# Altium schematic symbol library Sensor_Current.SchLib: 253 symbols (part 2 of 3)
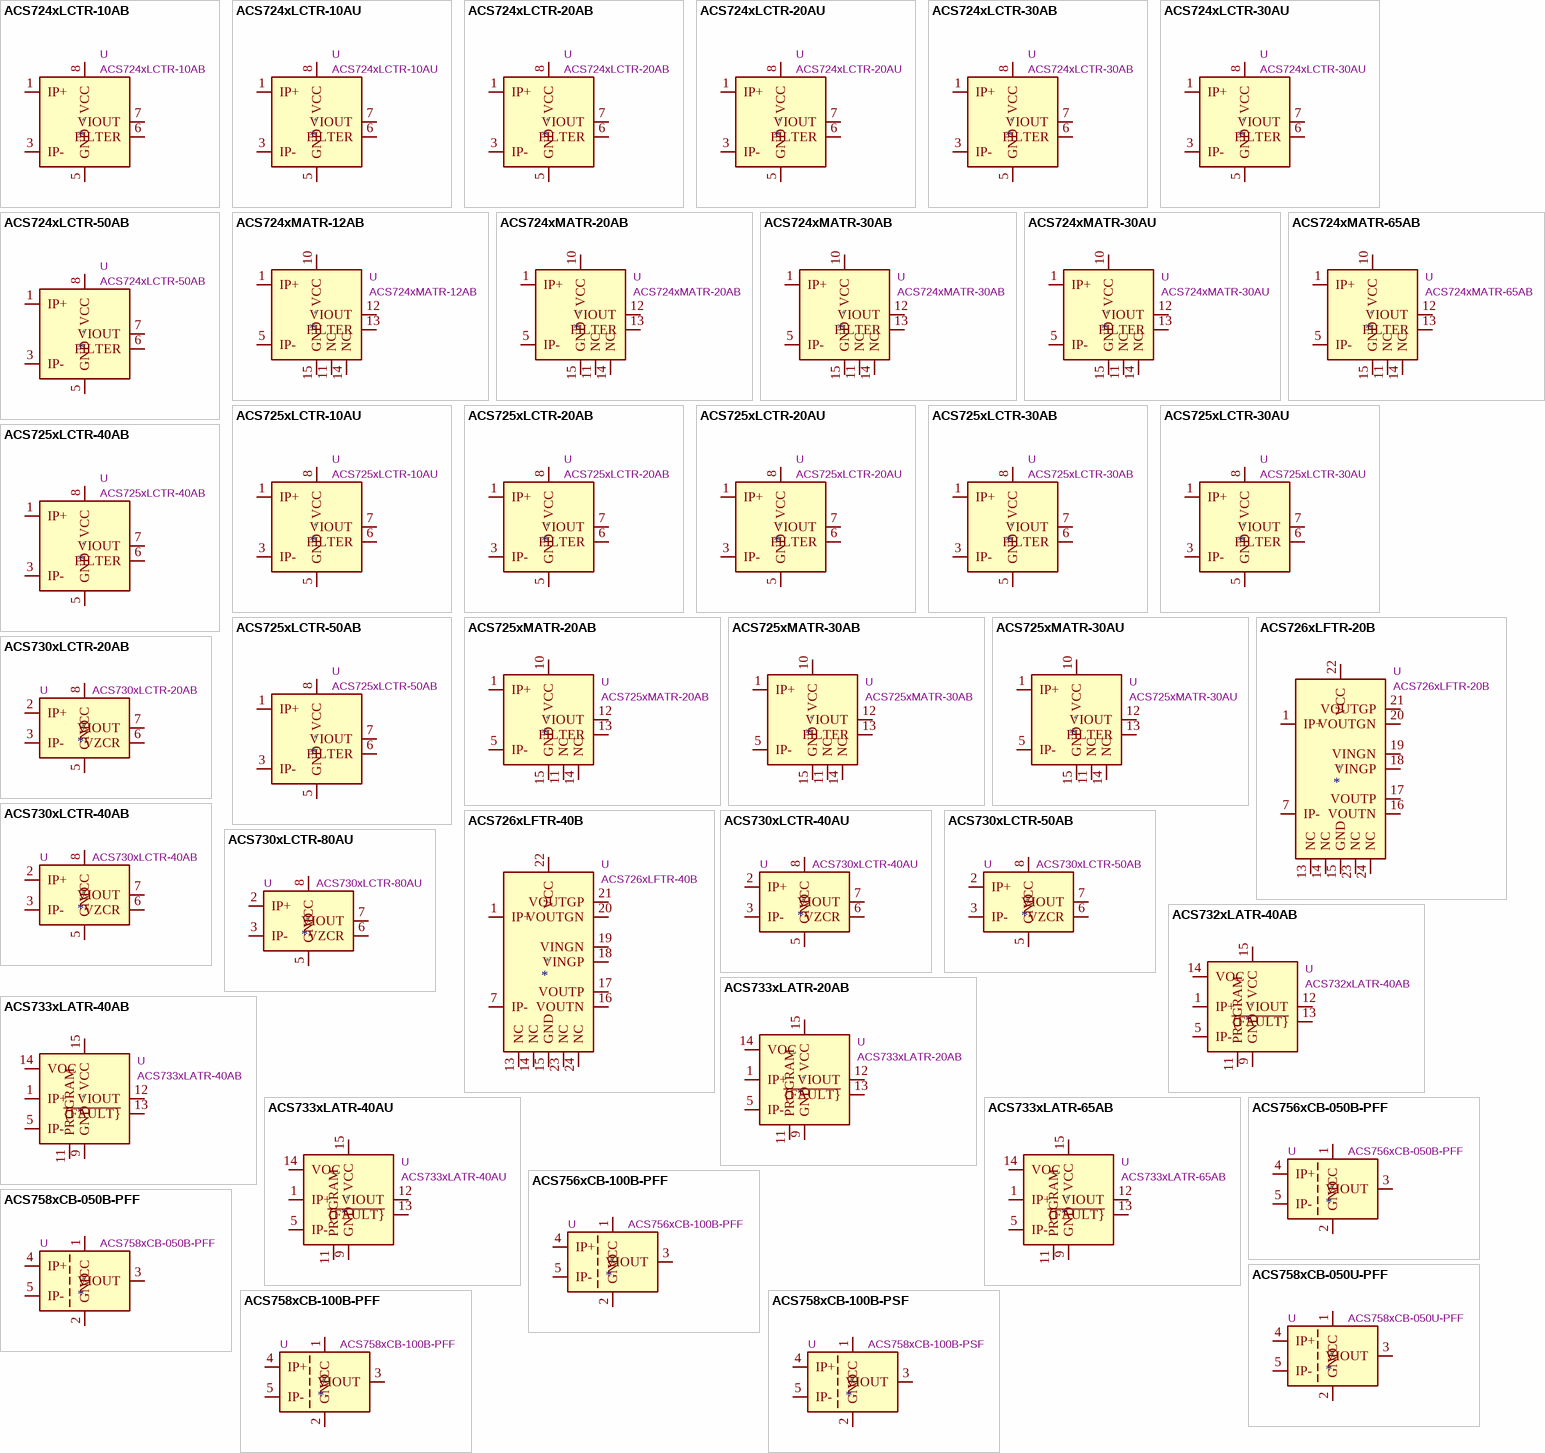
[diagram p7: symbols ACS724xLCTR-10AB to ACS758xCB-100B-PSF]

## ACS725xLCTR-30AB
designator *  value ACS725xLCTR-30AB  Reference: U
ki_keywords: hall effect current monitor sensor isolated; ki_description: ±30A Bidirectional Hall-Effect Current Sensor, +3.3V supply, 44mV/A, SOIC-8; ki_fp_filters: SOIC*3.9x4.9m*P1.27mm*; Footprint: Package_SO:SOIC-8_3.9x4.9mm_P1.27mm; Datasheet: http://www.allegromicro.com/~/media/Files/Datasheets/ACS725-Datasheet.ashx?la=en
pins: 1 IP+, 2 IP+ hidden, 3 IP-, 4 IP- hidden, 5 GND, 6 FILTER, 7 VIOUT, 8 VCC

## ACS725xLCTR-30AU
designator *  value ACS725xLCTR-30AU  Reference: U
ki_keywords: hall effect current monitor sensor isolated; ki_description: 30A Unidirectional Hall-Effect Current Sensor, +3.3V supply, 88mV/A, SOIC-8; ki_fp_filters: SOIC*3.9x4.9m*P1.27mm*; Footprint: Package_SO:SOIC-8_3.9x4.9mm_P1.27mm; Datasheet: http://www.allegromicro.com/~/media/Files/Datasheets/ACS725-Datasheet.ashx?la=en
pins: 1 IP+, 2 IP+ hidden, 3 IP-, 4 IP- hidden, 5 GND, 6 FILTER, 7 VIOUT, 8 VCC

## ACS725xLCTR-40AB
designator *  value ACS725xLCTR-40AB  Reference: U
ki_keywords: hall effect current monitor sensor isolated; ki_description: ±40A Bidirectional Hall-Effect Current Sensor, +3.3V supply, 33mV/A, SOIC-8; ki_fp_filters: SOIC*3.9x4.9m*P1.27mm*; Footprint: Package_SO:SOIC-8_3.9x4.9mm_P1.27mm; Datasheet: http://www.allegromicro.com/~/media/Files/Datasheets/ACS725-Datasheet.ashx?la=en
pins: 1 IP+, 2 IP+ hidden, 3 IP-, 4 IP- hidden, 5 GND, 6 FILTER, 7 VIOUT, 8 VCC

## ACS725xLCTR-50AB
designator *  value ACS725xLCTR-50AB  Reference: U
ki_keywords: hall effect current monitor sensor isolated; ki_description: ±50A Bidirectional Hall-Effect Current Sensor, +3.3V supply, 26.4mV/A, SOIC-8; ki_fp_filters: SOIC*3.9x4.9m*P1.27mm*; Footprint: Package_SO:SOIC-8_3.9x4.9mm_P1.27mm; Datasheet: http://www.allegromicro.com/~/media/Files/Datasheets/ACS725-Datasheet.ashx?la=en
pins: 1 IP+, 2 IP+ hidden, 3 IP-, 4 IP- hidden, 5 GND, 6 FILTER, 7 VIOUT, 8 VCC

## ACS725xMATR-20AB
designator *  value ACS725xMATR-20AB  Reference: U
ki_keywords: hall effect current monitor sensor isolated; ki_description: ±20A Bidirectional Hall-Effect Current Sensor, +3.3V supply, 66mV/A, SOIC-16; ki_fp_filters: SOIC*7.5x10.3mm*P1.27mm*; Footprint: Package_SO:SOIC-16W_7.5x10.3mm_P1.27mm; Datasheet: http://www.allegromicro.com/~/media/Files/Datasheets/ACS725KMA-Datasheet.ashx?la=en
pins: 1 IP+, 2 IP+ hidden, 3 IP+ hidden, 4 IP+ hidden, 5 IP-, 6 IP- hidden, 7 IP- hidden, 8 IP- hidden, 9 NC hidden, 10 VCC, 11 NC, 12 VIOUT, 13 FILTER, 14 NC, 15 GND, 16 NC hidden

## ACS725xMATR-30AB
designator *  value ACS725xMATR-30AB  Reference: U
ki_keywords: hall effect current monitor sensor isolated; ki_description: ±30A Bidirectional Hall-Effect Current Sensor, +3.3V supply, 44mV/A, SOIC-16; ki_fp_filters: SOIC*7.5x10.3mm*P1.27mm*; Footprint: Package_SO:SOIC-16W_7.5x10.3mm_P1.27mm; Datasheet: http://www.allegromicro.com/~/media/Files/Datasheets/ACS725KMA-Datasheet.ashx?la=en
pins: 1 IP+, 2 IP+ hidden, 3 IP+ hidden, 4 IP+ hidden, 5 IP-, 6 IP- hidden, 7 IP- hidden, 8 IP- hidden, 9 NC hidden, 10 VCC, 11 NC, 12 VIOUT, 13 FILTER, 14 NC, 15 GND, 16 NC hidden

## ACS725xMATR-30AU
designator *  value ACS725xMATR-30AU  Reference: U
ki_keywords: hall effect current monitor sensor isolated; ki_description: 30A Unidirectional Hall-Effect Current Sensor, +3.3V supply, 88mV/A, SOIC-16; ki_fp_filters: SOIC*7.5x10.3mm*P1.27mm*; Footprint: Package_SO:SOIC-16W_7.5x10.3mm_P1.27mm; Datasheet: http://www.allegromicro.com/~/media/Files/Datasheets/ACS725KMA-Datasheet.ashx?la=en
pins: 1 IP+, 2 IP+ hidden, 3 IP+ hidden, 4 IP+ hidden, 5 IP-, 6 IP- hidden, 7 IP- hidden, 8 IP- hidden, 9 NC hidden, 10 VCC, 11 NC, 12 VIOUT, 13 FILTER, 14 NC, 15 GND, 16 NC hidden

## ACS726xLFTR-20B
designator *  value ACS726xLFTR-20B  Reference: U
ki_keywords: hall effect current monitor sensor isolated; ki_description: ±20A Bidirectional Hall-Effect Current Sensor, +3.3V supply, 100mV/A, QSOP-24; ki_fp_filters: Allegro*QSOP*3.9x8.7mm*P0.635mm*; Footprint: Sensor_Current:Allegro_QSOP-24_3.9x8.7mm_P0.635mm; Datasheet: http://www.allegromicro.com/~/media/Files/Datasheets/ACS726-Datasheet.ashx?la=en
pins: 1 IP+, 2 IP+ hidden, 3 IP+ hidden, 4 IP+ hidden, 5 IP+ hidden, 6 IP+ hidden, 7 IP-, 8 IP- hidden, 9 IP- hidden, 10 IP- hidden, 11 IP- hidden, 12 IP- hidden, 13 NC, 14 NC, 15 GND, 16 VOUTN, 17 VOUTP, 18 VINGP, 19 VINGN, 20 VOUTGN, 21 VOUTGP, 22 VCC, 23 NC, 24 NC

## ACS726xLFTR-40B
designator *  value ACS726xLFTR-40B  Reference: U
ki_keywords: hall effect current monitor sensor isolated; ki_description: ±40A Bidirectional Hall-Effect Current Sensor, +3.3V supply, 50mV/A, QSOP-24; ki_fp_filters: Allegro*QSOP*3.9x8.7mm*P0.635mm*; Footprint: Sensor_Current:Allegro_QSOP-24_3.9x8.7mm_P0.635mm; Datasheet: http://www.allegromicro.com/~/media/Files/Datasheets/ACS726-Datasheet.ashx?la=en
pins: 1 IP+, 2 IP+ hidden, 3 IP+ hidden, 4 IP+ hidden, 5 IP+ hidden, 6 IP+ hidden, 7 IP-, 8 IP- hidden, 9 IP- hidden, 10 IP- hidden, 11 IP- hidden, 12 IP- hidden, 13 NC, 14 NC, 15 GND, 16 VOUTN, 17 VOUTP, 18 VINGP, 19 VINGN, 20 VOUTGN, 21 VOUTGP, 22 VCC, 23 NC, 24 NC

## ACS730xLCTR-20AB
designator *  value ACS730xLCTR-20AB  Reference: U
ki_keywords: hall effect current monitor sensor isolated; ki_description: ±20A Bidirectional Hall-Effect Current Sensor, +5.0V supply, 100mV/A, SOIC-8; ki_fp_filters: SOIC*3.9x4.9mm*P1.27mm*; Footprint: Package_SO:SOIC-8_3.9x4.9mm_P1.27mm; Datasheet: http://www.allegromicro.com/~/media/Files/Datasheets/ACS730-Datasheet.ashx?la=en
pins: 1 IP+ hidden, 2 IP+, 3 IP-, 4 IP- hidden, 5 GND, 6 VZCR, 7 VIOUT, 8 VCC

## ACS730xLCTR-40AB
designator *  value ACS730xLCTR-40AB  Reference: U
ki_keywords: hall effect current monitor sensor isolated; ki_description: ±40A Bidirectional Hall-Effect Current Sensor, +5.0V supply, 50mV/A, SOIC-8; ki_fp_filters: SOIC*3.9x4.9mm*P1.27mm*; Footprint: Package_SO:SOIC-8_3.9x4.9mm_P1.27mm; Datasheet: http://www.allegromicro.com/~/media/Files/Datasheets/ACS730-Datasheet.ashx?la=en
pins: 1 IP+ hidden, 2 IP+, 3 IP-, 4 IP- hidden, 5 GND, 6 VZCR, 7 VIOUT, 8 VCC

## ACS730xLCTR-40AU
designator *  value ACS730xLCTR-40AU  Reference: U
ki_keywords: hall effect current monitor sensor isolated; ki_description: 40A Unidirectional Hall-Effect Current Sensor, +5.0V supply, 100mV/A, SOIC-8; ki_fp_filters: SOIC*3.9x4.9mm*P1.27mm*; Footprint: Package_SO:SOIC-8_3.9x4.9mm_P1.27mm; Datasheet: http://www.allegromicro.com/~/media/Files/Datasheets/ACS730-Datasheet.ashx?la=en
pins: 1 IP+ hidden, 2 IP+, 3 IP-, 4 IP- hidden, 5 GND, 6 VZCR, 7 VIOUT, 8 VCC

## ACS730xLCTR-50AB
designator *  value ACS730xLCTR-50AB  Reference: U
ki_keywords: hall effect current monitor sensor isolated; ki_description: ±50A Bidirectional Hall-Effect Current Sensor, +5.0V supply, 40mV/A, SOIC-8; ki_fp_filters: SOIC*3.9x4.9mm*P1.27mm*; Footprint: Package_SO:SOIC-8_3.9x4.9mm_P1.27mm; Datasheet: http://www.allegromicro.com/~/media/Files/Datasheets/ACS730-Datasheet.ashx?la=en
pins: 1 IP+ hidden, 2 IP+, 3 IP-, 4 IP- hidden, 5 GND, 6 VZCR, 7 VIOUT, 8 VCC

## ACS730xLCTR-80AU
designator *  value ACS730xLCTR-80AU  Reference: U
ki_keywords: hall effect current monitor sensor isolated; ki_description: 80A Unidirectional Hall-Effect Current Sensor, +5.0V supply, 50mV/A, SOIC-8; ki_fp_filters: SOIC*3.9x4.9mm*P1.27mm*; Footprint: Package_SO:SOIC-8_3.9x4.9mm_P1.27mm; Datasheet: http://www.allegromicro.com/~/media/Files/Datasheets/ACS730-Datasheet.ashx?la=en
pins: 1 IP+ hidden, 2 IP+, 3 IP-, 4 IP- hidden, 5 GND, 6 VZCR, 7 VIOUT, 8 VCC

## ACS732xLATR-40AB
designator *  value ACS732xLATR-40AB  Reference: U
ki_keywords: hall effect current monitor sensor isolated; ki_description: ±40A Bidirectional Hall-Effect Current Sensor, +5.0V supply, 50mV/A, SOIC-16; ki_fp_filters: SOIC*7.5x10.3mm*P1.27mm*; Footprint: Package_SO:SOIC-16W_7.5x10.3mm_P1.27mm; Datasheet: http://www.allegromicro.com/~/media/Files/Datasheets/ACS732-ACS733-Datasheet.ashx?la=en
pins: 1 IP+, 2 IP+ hidden, 3 IP+ hidden, 4 IP+ hidden, 5 IP-, 6 IP- hidden, 7 IP- hidden, 8 IP- hidden, 9 GND, 10 GND hidden, 11 PROGRAM, 12 VIOUT, 13 ~{{FAULT}}, 14 VOC, 15 VCC, 16 VCC hidden

## ACS733xLATR-20AB
designator *  value ACS733xLATR-20AB  Reference: U
ki_keywords: hall effect current monitor sensor isolated; ki_description: ±20A Bidirectional Hall-Effect Current Sensor, +3.3V supply, 66mV/A, SOIC-16; ki_fp_filters: SOIC*7.5x10.3mm*P1.27mm*; Footprint: Package_SO:SOIC-16W_7.5x10.3mm_P1.27mm; Datasheet: http://www.allegromicro.com/~/media/Files/Datasheets/ACS732-ACS733-Datasheet.ashx?la=en
pins: 1 IP+, 2 IP+ hidden, 3 IP+ hidden, 4 IP+ hidden, 5 IP-, 6 IP- hidden, 7 IP- hidden, 8 IP- hidden, 9 GND, 10 GND hidden, 11 PROGRAM, 12 VIOUT, 13 ~{{FAULT}}, 14 VOC, 15 VCC, 16 VCC hidden

## ACS733xLATR-40AB
designator *  value ACS733xLATR-40AB  Reference: U
ki_keywords: hall effect current monitor sensor isolated; ki_description: ±40A Bidirectional Hall-Effect Current Sensor, +3.3V supply, 33mV/A, SOIC-16; ki_fp_filters: SOIC*7.5x10.3mm*P1.27mm*; Footprint: Package_SO:SOIC-16W_7.5x10.3mm_P1.27mm; Datasheet: http://www.allegromicro.com/~/media/Files/Datasheets/ACS732-ACS733-Datasheet.ashx?la=en
pins: 1 IP+, 2 IP+ hidden, 3 IP+ hidden, 4 IP+ hidden, 5 IP-, 6 IP- hidden, 7 IP- hidden, 8 IP- hidden, 9 GND, 10 GND hidden, 11 PROGRAM, 12 VIOUT, 13 ~{{FAULT}}, 14 VOC, 15 VCC, 16 VCC hidden

## ACS733xLATR-40AU
designator *  value ACS733xLATR-40AU  Reference: U
ki_keywords: hall effect current monitor sensor isolated; ki_description: 40A Unidirectional Hall-Effect Current Sensor, +3.3V supply, 66mV/A, SOIC-16; ki_fp_filters: SOIC*7.5x10.3mm*P1.27mm*; Footprint: Package_SO:SOIC-16W_7.5x10.3mm_P1.27mm; Datasheet: http://www.allegromicro.com/~/media/Files/Datasheets/ACS732-ACS733-Datasheet.ashx?la=en
pins: 1 IP+, 2 IP+ hidden, 3 IP+ hidden, 4 IP+ hidden, 5 IP-, 6 IP- hidden, 7 IP- hidden, 8 IP- hidden, 9 GND, 10 GND hidden, 11 PROGRAM, 12 VIOUT, 13 ~{{FAULT}}, 14 VOC, 15 VCC, 16 VCC hidden

## ACS733xLATR-65AB
designator *  value ACS733xLATR-65AB  Reference: U
ki_keywords: hall effect current monitor sensor isolated; ki_description: ±65A Unidirectional Hall-Effect Current Sensor, +3.3V supply, 20mV/A, SOIC-16; ki_fp_filters: SOIC*7.5x10.3mm*P1.27mm*; Footprint: Package_SO:SOIC-16W_7.5x10.3mm_P1.27mm; Datasheet: http://www.allegromicro.com/~/media/Files/Datasheets/ACS732-ACS733-Datasheet.ashx?la=en
pins: 1 IP+, 2 IP+ hidden, 3 IP+ hidden, 4 IP+ hidden, 5 IP-, 6 IP- hidden, 7 IP- hidden, 8 IP- hidden, 9 GND, 10 GND hidden, 11 PROGRAM, 12 VIOUT, 13 ~{{FAULT}}, 14 VOC, 15 VCC, 16 VCC hidden

## ACS756xCB-050B-PFF
designator *  value ACS756xCB-050B-PFF  Reference: U
ki_keywords: hall effect current monitor sensor isolated; ki_description: ±50A Bidirectional Hall-Effect Current Sensor, +5.0V supply, 40mV/A, CB-5 PFF; ki_fp_filters: Allegro*CB*PFF*; Footprint: Sensor_Current:Allegro_CB_PFF; Datasheet: http://www.allegromicro.com/~/media/Files/Datasheets/ACS756-Datasheet.ashx?la=en
pins: 1 VCC, 2 GND, 3 VIOUT, 4 IP+, 5 IP-

## ACS756xCB-100B-PFF
designator *  value ACS756xCB-100B-PFF  Reference: U
ki_keywords: hall effect current monitor sensor isolated; ki_description: ±100A Bidirectional Hall-Effect Current Sensor, +5.0V supply, 20mV/A, CB-5 PFF; ki_fp_filters: Allegro*CB*PFF*; Footprint: Sensor_Current:Allegro_CB_PFF; Datasheet: http://www.allegromicro.com/~/media/Files/Datasheets/ACS756-Datasheet.ashx?la=en
pins: 1 VCC, 2 GND, 3 VIOUT, 4 IP+, 5 IP-

## ACS758xCB-050B-PFF
designator *  value ACS758xCB-050B-PFF  Reference: U
ki_keywords: hall effect current monitor sensor isolated; ki_description: ±50A Bidirectional Hall-Effect Current Sensor, +5.0V supply, 40mV/A, CB-5 PFF; ki_fp_filters: Allegro*CB*PFF*; Footprint: Sensor_Current:Allegro_CB_PFF; Datasheet: http://www.allegromicro.com/~/media/Files/Datasheets/ACS758-Datasheet.ashx?la=en
pins: 1 VCC, 2 GND, 3 VIOUT, 4 IP+, 5 IP-

## ACS758xCB-050U-PFF
designator *  value ACS758xCB-050U-PFF  Reference: U
ki_keywords: hall effect current monitor sensor isolated; ki_description: 50A Unidirectional Hall-Effect Current Sensor, +5.0V supply, 60mV/A, CB-5 PFF; ki_fp_filters: Allegro*CB*PFF*; Footprint: Sensor_Current:Allegro_CB_PFF; Datasheet: http://www.allegromicro.com/~/media/Files/Datasheets/ACS758-Datasheet.ashx?la=en
pins: 1 VCC, 2 GND, 3 VIOUT, 4 IP+, 5 IP-

## ACS758xCB-100B-PFF
designator *  value ACS758xCB-100B-PFF  Reference: U
ki_keywords: hall effect current monitor sensor isolated; ki_description: ±100A Bidirectional Hall-Effect Current Sensor, +5.0V supply, 20mV/A, CB-5 PFF; ki_fp_filters: Allegro*CB*PFF*; Footprint: Sensor_Current:Allegro_CB_PFF; Datasheet: http://www.allegromicro.com/~/media/Files/Datasheets/ACS758-Datasheet.ashx?la=en
pins: 1 VCC, 2 GND, 3 VIOUT, 4 IP+, 5 IP-

## ACS758xCB-100B-PSF
designator *  value ACS758xCB-100B-PSF  Reference: U
ki_keywords: hall effect current monitor sensor isolated; ki_description: ±100A Bidirectional Hall-Effect Current Sensor, +5.0V supply, 20mV/A, CB-5 PSF; ki_fp_filters: Allegro*CB*PSF*; Footprint: Sensor_Current:Allegro_CB_PSF; Datasheet: http://www.allegromicro.com/~/media/Files/Datasheets/ACS758-Datasheet.ashx?la=en
pins: 1 VCC, 2 GND, 3 VIOUT, 4 IP+, 5 IP-

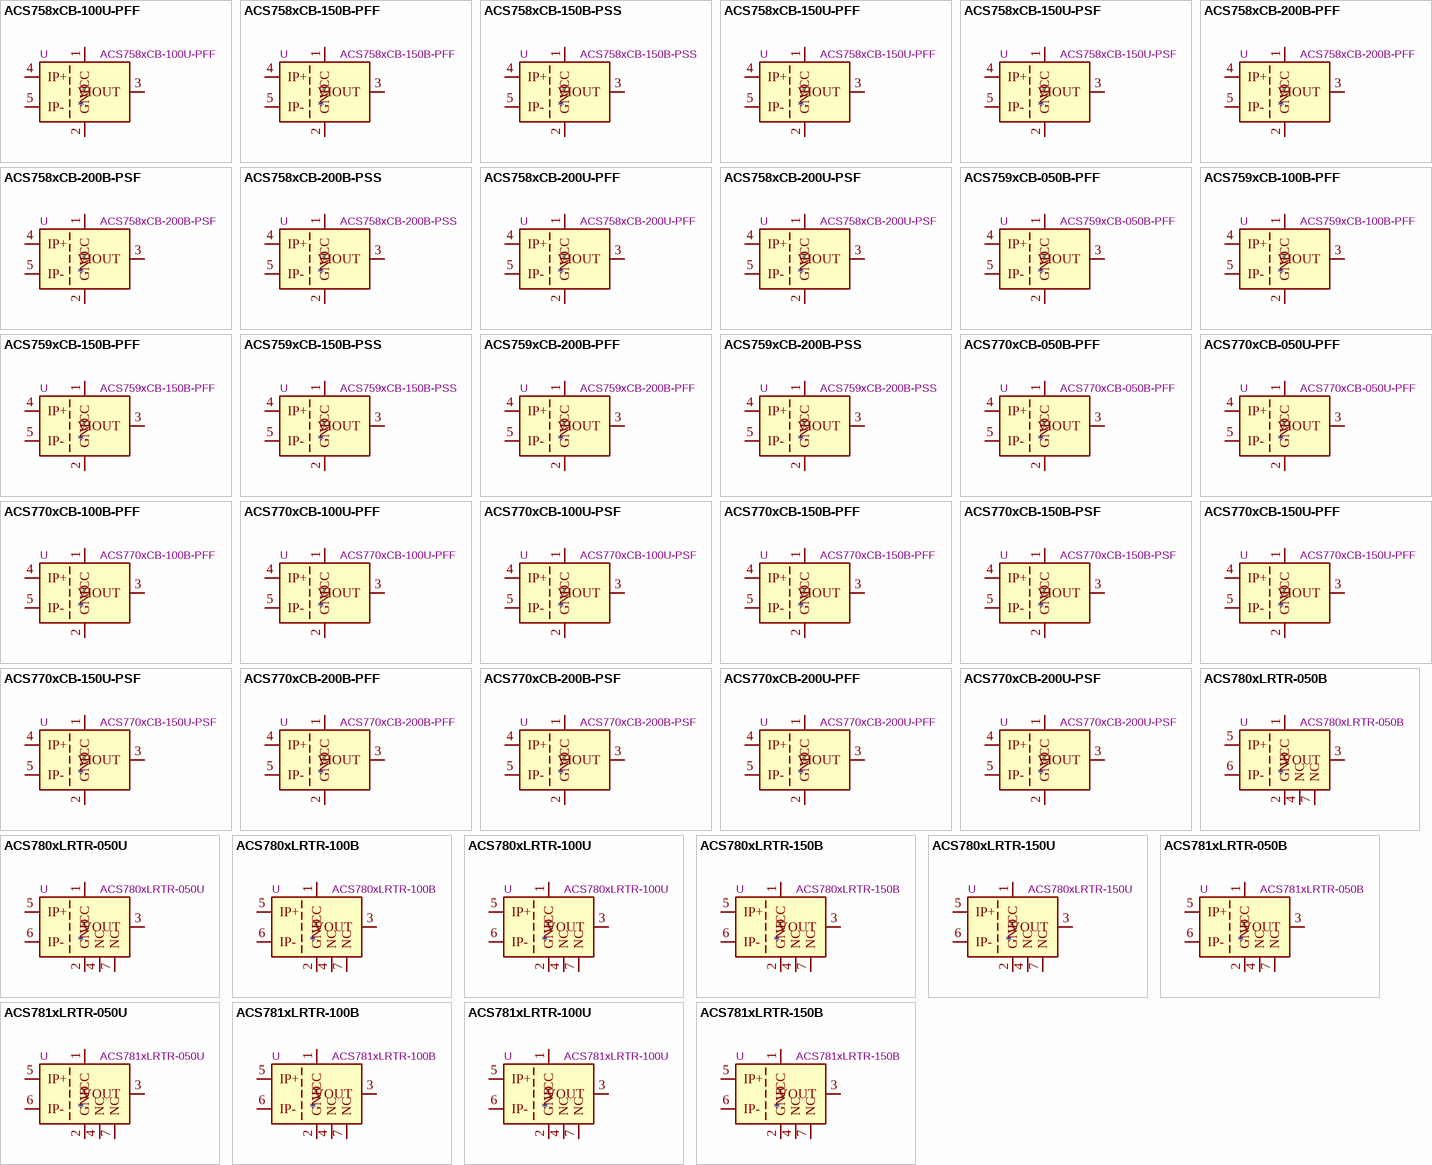
[diagram p3: symbols ACS758xCB-100U-PFF to ACS781xLRTR-150B]

## ACS758xCB-100U-PFF
designator *  value ACS758xCB-100U-PFF  Reference: U
ki_keywords: hall effect current monitor sensor isolated; ki_description: 100A Unidirectional Hall-Effect Current Sensor, +5.0V supply, 40mV/A, CB-5 PFF; ki_fp_filters: Allegro*CB*PFF*; Footprint: Sensor_Current:Allegro_CB_PFF; Datasheet: http://www.allegromicro.com/~/media/Files/Datasheets/ACS758-Datasheet.ashx?la=en
pins: 1 VCC, 2 GND, 3 VIOUT, 4 IP+, 5 IP-

## ACS758xCB-150B-PFF
designator *  value ACS758xCB-150B-PFF  Reference: U
ki_keywords: hall effect current monitor sensor isolated; ki_description: ±150A Bidirectional Hall-Effect Current Sensor, +5.0V supply, 13.3mV/A, CB-5 PFF; ki_fp_filters: Allegro*CB*PFF*; Footprint: Sensor_Current:Allegro_CB_PFF; Datasheet: http://www.allegromicro.com/~/media/Files/Datasheets/ACS758-Datasheet.ashx?la=en
pins: 1 VCC, 2 GND, 3 VIOUT, 4 IP+, 5 IP-

## ACS758xCB-150B-PSS
designator *  value ACS758xCB-150B-PSS  Reference: U
ki_keywords: hall effect current monitor sensor isolated; ki_description: ±150A Bidirectional Hall-Effect Current Sensor, +5.0V supply, 13.3mV/A, CB-5 PSS; ki_fp_filters: Allegro*CB*PSS*; Footprint: Sensor_Current:Allegro_CB_PSS; Datasheet: http://www.allegromicro.com/~/media/Files/Datasheets/ACS758-Datasheet.ashx?la=en
pins: 1 VCC, 2 GND, 3 VIOUT, 4 IP+, 5 IP-

## ACS758xCB-150U-PFF
designator *  value ACS758xCB-150U-PFF  Reference: U
ki_keywords: hall effect current monitor sensor isolated; ki_description: 150A Unidirectional Hall-Effect Current Sensor, +5.0V supply, 26.7mV/A, CB-5 PFF; ki_fp_filters: Allegro*CB*PFF*; Footprint: Sensor_Current:Allegro_CB_PFF; Datasheet: http://www.allegromicro.com/~/media/Files/Datasheets/ACS758-Datasheet.ashx?la=en
pins: 1 VCC, 2 GND, 3 VIOUT, 4 IP+, 5 IP-

## ACS758xCB-150U-PSF
designator *  value ACS758xCB-150U-PSF  Reference: U
ki_keywords: hall effect current monitor sensor isolated; ki_description: 150A Unidirectional Hall-Effect Current Sensor, +5.0V supply, 26.7mV/A, CB-5 PSF; ki_fp_filters: Allegro*CB*PSF*; Footprint: Sensor_Current:Allegro_CB_PSF; Datasheet: http://www.allegromicro.com/~/media/Files/Datasheets/ACS758-Datasheet.ashx?la=en
pins: 1 VCC, 2 GND, 3 VIOUT, 4 IP+, 5 IP-

## ACS758xCB-200B-PFF
designator *  value ACS758xCB-200B-PFF  Reference: U
ki_keywords: hall effect current monitor sensor isolated; ki_description: ±200A Bidirectional Hall-Effect Current Sensor, +5.0V supply, 10mV/A, CB-5 PFF; ki_fp_filters: Allegro*CB*PFF*; Footprint: Sensor_Current:Allegro_CB_PFF; Datasheet: http://www.allegromicro.com/~/media/Files/Datasheets/ACS758-Datasheet.ashx?la=en
pins: 1 VCC, 2 GND, 3 VIOUT, 4 IP+, 5 IP-

## ACS758xCB-200B-PSF
designator *  value ACS758xCB-200B-PSF  Reference: U
ki_keywords: hall effect current monitor sensor isolated; ki_description: ±200A Bidirectional Hall-Effect Current Sensor, +5.0V supply, 10mV/A, CB-5 PSF; ki_fp_filters: Allegro*CB*PSF*; Footprint: Sensor_Current:Allegro_CB_PSF; Datasheet: http://www.allegromicro.com/~/media/Files/Datasheets/ACS758-Datasheet.ashx?la=en
pins: 1 VCC, 2 GND, 3 VIOUT, 4 IP+, 5 IP-

## ACS758xCB-200B-PSS
designator *  value ACS758xCB-200B-PSS  Reference: U
ki_keywords: hall effect current monitor sensor isolated; ki_description: ±200A Bidirectional Hall-Effect Current Sensor, +5.0V supply, 10mV/A, CB-5 PSS; ki_fp_filters: Allegro*CB*PSS*; Footprint: Sensor_Current:Allegro_CB_PSS; Datasheet: http://www.allegromicro.com/~/media/Files/Datasheets/ACS758-Datasheet.ashx?la=en
pins: 1 VCC, 2 GND, 3 VIOUT, 4 IP+, 5 IP-

## ACS758xCB-200U-PFF
designator *  value ACS758xCB-200U-PFF  Reference: U
ki_keywords: hall effect current monitor sensor isolated; ki_description: 200A Unidirectional Hall-Effect Current Sensor, +5.0V supply, 20mV/A, CB-5 PFF; ki_fp_filters: Allegro*CB*PFF*; Footprint: Sensor_Current:Allegro_CB_PFF; Datasheet: http://www.allegromicro.com/~/media/Files/Datasheets/ACS758-Datasheet.ashx?la=en
pins: 1 VCC, 2 GND, 3 VIOUT, 4 IP+, 5 IP-

## ACS758xCB-200U-PSF
designator *  value ACS758xCB-200U-PSF  Reference: U
ki_keywords: hall effect current monitor sensor isolated; ki_description: 200A Unidirectional Hall-Effect Current Sensor, +5.0V supply, 20mV/A, CB-5 PSF; ki_fp_filters: Allegro*CB*PSF*; Footprint: Sensor_Current:Allegro_CB_PSF; Datasheet: http://www.allegromicro.com/~/media/Files/Datasheets/ACS758-Datasheet.ashx?la=en
pins: 1 VCC, 2 GND, 3 VIOUT, 4 IP+, 5 IP-

## ACS759xCB-050B-PFF
designator *  value ACS759xCB-050B-PFF  Reference: U
ki_keywords: hall effect current monitor sensor isolated; ki_description: ±50A Bidirectional Hall-Effect Current Sensor, +3.3V supply, 26.4mV/A, CB-5 PFF; ki_fp_filters: Allegro*CB*PFF*; Footprint: Sensor_Current:Allegro_CB_PFF; Datasheet: http://www.allegromicro.com/~/media/Files/Datasheets/ACS759-Datasheet.ashx?la=en
pins: 1 VCC, 2 GND, 3 VIOUT, 4 IP+, 5 IP-

## ACS759xCB-100B-PFF
designator *  value ACS759xCB-100B-PFF  Reference: U
ki_keywords: hall effect current monitor sensor isolated; ki_description: ±100A Bidirectional Hall-Effect Current Sensor, +3.3V supply, 13.2mV/A, CB-5 PFF; ki_fp_filters: Allegro*CB*PFF*; Footprint: Sensor_Current:Allegro_CB_PFF; Datasheet: http://www.allegromicro.com/~/media/Files/Datasheets/ACS759-Datasheet.ashx?la=en
pins: 1 VCC, 2 GND, 3 VIOUT, 4 IP+, 5 IP-

## ACS759xCB-150B-PFF
designator *  value ACS759xCB-150B-PFF  Reference: U
ki_keywords: hall effect current monitor sensor isolated; ki_description: ±150A Bidirectional Hall-Effect Current Sensor, +3.3V supply, 8.8mV/A, CB-5 PFF; ki_fp_filters: Allegro*CB*PFF*; Footprint: Sensor_Current:Allegro_CB_PFF; Datasheet: http://www.allegromicro.com/~/media/Files/Datasheets/ACS759-Datasheet.ashx?la=en
pins: 1 VCC, 2 GND, 3 VIOUT, 4 IP+, 5 IP-

## ACS759xCB-150B-PSS
designator *  value ACS759xCB-150B-PSS  Reference: U
ki_keywords: hall effect current monitor sensor isolated; ki_description: ±150A Bidirectional Hall-Effect Current Sensor, +3.3V supply, 8.8mV/A, CB-5 PSS; ki_fp_filters: Allegro*CB*PSS*; Footprint: Sensor_Current:Allegro_CB_PSS; Datasheet: http://www.allegromicro.com/~/media/Files/Datasheets/ACS759-Datasheet.ashx?la=en
pins: 1 VCC, 2 GND, 3 VIOUT, 4 IP+, 5 IP-

## ACS759xCB-200B-PFF
designator *  value ACS759xCB-200B-PFF  Reference: U
ki_keywords: hall effect current monitor sensor isolated; ki_description: ±200A Bidirectional Hall-Effect Current Sensor, +3.3V supply, 6.6mV/A, CB-5 PFF; ki_fp_filters: Allegro*CB*PFF*; Footprint: Sensor_Current:Allegro_CB_PFF; Datasheet: http://www.allegromicro.com/~/media/Files/Datasheets/ACS759-Datasheet.ashx?la=en
pins: 1 VCC, 2 GND, 3 VIOUT, 4 IP+, 5 IP-

## ACS759xCB-200B-PSS
designator *  value ACS759xCB-200B-PSS  Reference: U
ki_keywords: hall effect current monitor sensor isolated; ki_description: ±200A Bidirectional Hall-Effect Current Sensor, +3.3V supply, 6.6mV/A, CB-5 PSS; ki_fp_filters: Allegro*CB*PSS*; Footprint: Sensor_Current:Allegro_CB_PSS; Datasheet: http://www.allegromicro.com/~/media/Files/Datasheets/ACS759-Datasheet.ashx?la=en
pins: 1 VCC, 2 GND, 3 VIOUT, 4 IP+, 5 IP-

## ACS770xCB-050B-PFF
designator *  value ACS770xCB-050B-PFF  Reference: U
ki_keywords: hall effect current monitor sensor isolated; ki_description: ±50A Bidirectional Hall-Effect Current Sensor, +5.0V supply, 40mV/A, CB-5 PFF; ki_fp_filters: Allegro*CB*PFF*; Footprint: Sensor_Current:Allegro_CB_PFF; Datasheet: http://www.allegromicro.com/~/media/Files/Datasheets/ACS758-Datasheet.ashx?la=en
pins: 1 VCC, 2 GND, 3 VIOUT, 4 IP+, 5 IP-

## ACS770xCB-050U-PFF
designator *  value ACS770xCB-050U-PFF  Reference: U
ki_keywords: hall effect current monitor sensor isolated; ki_description: 50A Unidirectional Hall-Effect Current Sensor, +5.0V supply, 80mV/A, CB-5 PFF; ki_fp_filters: Allegro*CB*PFF*; Footprint: Sensor_Current:Allegro_CB_PFF; Datasheet: http://www.allegromicro.com/~/media/Files/Datasheets/ACS758-Datasheet.ashx?la=en
pins: 1 VCC, 2 GND, 3 VIOUT, 4 IP+, 5 IP-

## ACS770xCB-100B-PFF
designator *  value ACS770xCB-100B-PFF  Reference: U
ki_keywords: hall effect current monitor sensor isolated; ki_description: ±100A Bidirectional Hall-Effect Current Sensor, +5.0V supply, 20mV/A, CB-5 PFF; ki_fp_filters: Allegro*CB*PFF*; Footprint: Sensor_Current:Allegro_CB_PFF; Datasheet: http://www.allegromicro.com/~/media/Files/Datasheets/ACS758-Datasheet.ashx?la=en
pins: 1 VCC, 2 GND, 3 VIOUT, 4 IP+, 5 IP-

## ACS770xCB-100U-PFF
designator *  value ACS770xCB-100U-PFF  Reference: U
ki_keywords: hall effect current monitor sensor isolated; ki_description: 100A Unidirectional Hall-Effect Current Sensor, +5.0V supply, 40mV/A, CB-5 PFF; ki_fp_filters: Allegro*CB*PFF*; Footprint: Sensor_Current:Allegro_CB_PFF; Datasheet: http://www.allegromicro.com/~/media/Files/Datasheets/ACS758-Datasheet.ashx?la=en
pins: 1 VCC, 2 GND, 3 VIOUT, 4 IP+, 5 IP-

## ACS770xCB-100U-PSF
designator *  value ACS770xCB-100U-PSF  Reference: U
ki_keywords: hall effect current monitor sensor isolated; ki_description: 100A Unidirectional Hall-Effect Current Sensor, +5.0V supply, 40mV/A, CB-5 PSF; ki_fp_filters: Allegro*CB*PSF*; Footprint: Sensor_Current:Allegro_CB_PSF; Datasheet: http://www.allegromicro.com/~/media/Files/Datasheets/ACS758-Datasheet.ashx?la=en
pins: 1 VCC, 2 GND, 3 VIOUT, 4 IP+, 5 IP-

## ACS770xCB-150B-PFF
designator *  value ACS770xCB-150B-PFF  Reference: U
ki_keywords: hall effect current monitor sensor isolated; ki_description: ±50A Bidirectional Hall-Effect Current Sensor, +5.0V supply, 13.3mV/A, CB-5 PFF; ki_fp_filters: Allegro*CB*PFF*; Footprint: Sensor_Current:Allegro_CB_PFF; Datasheet: http://www.allegromicro.com/~/media/Files/Datasheets/ACS758-Datasheet.ashx?la=en
pins: 1 VCC, 2 GND, 3 VIOUT, 4 IP+, 5 IP-

## ACS770xCB-150B-PSF
designator *  value ACS770xCB-150B-PSF  Reference: U
ki_keywords: hall effect current monitor sensor isolated; ki_description: ±50A Bidirectional Hall-Effect Current Sensor, +5.0V supply, 13.3mV/A, CB-5 PSF; ki_fp_filters: Allegro*CB*PSF*; Footprint: Sensor_Current:Allegro_CB_PSF; Datasheet: http://www.allegromicro.com/~/media/Files/Datasheets/ACS758-Datasheet.ashx?la=en
pins: 1 VCC, 2 GND, 3 VIOUT, 4 IP+, 5 IP-

## ACS770xCB-150U-PFF
designator *  value ACS770xCB-150U-PFF  Reference: U
ki_keywords: hall effect current monitor sensor isolated; ki_description: 50A Unidirectional Hall-Effect Current Sensor, +5.0V supply, 26.7mV/A, CB-5 PFF; ki_fp_filters: Allegro*CB*PFF*; Footprint: Sensor_Current:Allegro_CB_PFF; Datasheet: http://www.allegromicro.com/~/media/Files/Datasheets/ACS758-Datasheet.ashx?la=en
pins: 1 VCC, 2 GND, 3 VIOUT, 4 IP+, 5 IP-

## ACS770xCB-150U-PSF
designator *  value ACS770xCB-150U-PSF  Reference: U
ki_keywords: hall effect current monitor sensor isolated; ki_description: 50A Unidirectional Hall-Effect Current Sensor, +5.0V supply, 26.7mV/A, CB-5 PSF; ki_fp_filters: Allegro*CB*PSF*; Footprint: Sensor_Current:Allegro_CB_PSF; Datasheet: http://www.allegromicro.com/~/media/Files/Datasheets/ACS758-Datasheet.ashx?la=en
pins: 1 VCC, 2 GND, 3 VIOUT, 4 IP+, 5 IP-

## ACS770xCB-200B-PFF
designator *  value ACS770xCB-200B-PFF  Reference: U
ki_keywords: hall effect current monitor sensor isolated; ki_description: ±50A Bidirectional Hall-Effect Current Sensor, +5.0V supply, 10mV/A, CB-5 PFF; ki_fp_filters: Allegro*CB*PFF*; Footprint: Sensor_Current:Allegro_CB_PFF; Datasheet: http://www.allegromicro.com/~/media/Files/Datasheets/ACS758-Datasheet.ashx?la=en
pins: 1 VCC, 2 GND, 3 VIOUT, 4 IP+, 5 IP-

## ACS770xCB-200B-PSF
designator *  value ACS770xCB-200B-PSF  Reference: U
ki_keywords: hall effect current monitor sensor isolated; ki_description: ±50A Bidirectional Hall-Effect Current Sensor, +5.0V supply, 10mV/A, CB-5 PSF; ki_fp_filters: Allegro*CB*PSF*; Footprint: Sensor_Current:Allegro_CB_PSF; Datasheet: http://www.allegromicro.com/~/media/Files/Datasheets/ACS758-Datasheet.ashx?la=en
pins: 1 VCC, 2 GND, 3 VIOUT, 4 IP+, 5 IP-

## ACS770xCB-200U-PFF
designator *  value ACS770xCB-200U-PFF  Reference: U
ki_keywords: hall effect current monitor sensor isolated; ki_description: 50A Unidirectional Hall-Effect Current Sensor, +5.0V supply, 20mV/A, CB-5 PFF; ki_fp_filters: Allegro*CB*PFF*; Footprint: Sensor_Current:Allegro_CB_PFF; Datasheet: http://www.allegromicro.com/~/media/Files/Datasheets/ACS758-Datasheet.ashx?la=en
pins: 1 VCC, 2 GND, 3 VIOUT, 4 IP+, 5 IP-

## ACS770xCB-200U-PSF
designator *  value ACS770xCB-200U-PSF  Reference: U
ki_keywords: hall effect current monitor sensor isolated; ki_description: 50A Unidirectional Hall-Effect Current Sensor, +5.0V supply, 20mV/A, CB-5 PSF; ki_fp_filters: Allegro*CB*PSF*; Footprint: Sensor_Current:Allegro_CB_PSF; Datasheet: http://www.allegromicro.com/~/media/Files/Datasheets/ACS758-Datasheet.ashx?la=en
pins: 1 VCC, 2 GND, 3 VIOUT, 4 IP+, 5 IP-

## ACS780xLRTR-050B
designator *  value ACS780xLRTR-050B  Reference: U
ki_keywords: hall effect current monitor sensor isolated; ki_description: ±50A Bidirectional Hall-Effect Current Sensor, +5.0V supply, 40mV/A, PSOF-7; ki_fp_filters: Allegro*PSOF*4.8x6.4mm*P1.60mm*; Footprint: Sensor_Current:Allegro_PSOF-7_4.8x6.4mm_P1.60mm; Datasheet: http://www.allegromicro.com/~/media/Files/Datasheets/ACS780-Datasheet.ashx?la=en
pins: 1 VCC, 2 GND, 3 VOUT, 4 NC, 5 IP+, 6 IP-, 7 NC

## ACS780xLRTR-050U
designator *  value ACS780xLRTR-050U  Reference: U
ki_keywords: hall effect current monitor sensor isolated; ki_description: 50A Unidirectional Hall-Effect Current Sensor, +5.0V supply, 60mV/A, PSOF-7; ki_fp_filters: Allegro*PSOF*4.8x6.4mm*P1.60mm*; Footprint: Sensor_Current:Allegro_PSOF-7_4.8x6.4mm_P1.60mm; Datasheet: http://www.allegromicro.com/~/media/Files/Datasheets/ACS780-Datasheet.ashx?la=en
pins: 1 VCC, 2 GND, 3 VOUT, 4 NC, 5 IP+, 6 IP-, 7 NC

## ACS780xLRTR-100B
designator *  value ACS780xLRTR-100B  Reference: U
ki_keywords: hall effect current monitor sensor isolated; ki_description: ±100A Bidirectional Hall-Effect Current Sensor, +5.0V supply, 20mV/A, PSOF-7; ki_fp_filters: Allegro*PSOF*4.8x6.4mm*P1.60mm*; Footprint: Sensor_Current:Allegro_PSOF-7_4.8x6.4mm_P1.60mm; Datasheet: http://www.allegromicro.com/~/media/Files/Datasheets/ACS780-Datasheet.ashx?la=en
pins: 1 VCC, 2 GND, 3 VOUT, 4 NC, 5 IP+, 6 IP-, 7 NC

## ACS780xLRTR-100U
designator *  value ACS780xLRTR-100U  Reference: U
ki_keywords: hall effect current monitor sensor isolated; ki_description: 100A Unidirectional Hall-Effect Current Sensor, +5.0V supply, 40mV/A, PSOF-7; ki_fp_filters: Allegro*PSOF*4.8x6.4mm*P1.60mm*; Footprint: Sensor_Current:Allegro_PSOF-7_4.8x6.4mm_P1.60mm; Datasheet: http://www.allegromicro.com/~/media/Files/Datasheets/ACS780-Datasheet.ashx?la=en
pins: 1 VCC, 2 GND, 3 VOUT, 4 NC, 5 IP+, 6 IP-, 7 NC

## ACS780xLRTR-150B
designator *  value ACS780xLRTR-150B  Reference: U
ki_keywords: hall effect current monitor sensor isolated; ki_description: ±150A Bidirectional Hall-Effect Current Sensor, +5.0V supply, 13.33mV/A, PSOF-7; ki_fp_filters: Allegro*PSOF*4.8x6.4mm*P1.60mm*; Footprint: Sensor_Current:Allegro_PSOF-7_4.8x6.4mm_P1.60mm; Datasheet: http://www.allegromicro.com/~/media/Files/Datasheets/ACS780-Datasheet.ashx?la=en
pins: 1 VCC, 2 GND, 3 VOUT, 4 NC, 5 IP+, 6 IP-, 7 NC

## ACS780xLRTR-150U
designator *  value ACS780xLRTR-150U  Reference: U
ki_keywords: hall effect current monitor sensor isolated; ki_description: 150A Unidirectional Hall-Effect Current Sensor, +5.0V supply, 26.66mV/A, PSOF-7; ki_fp_filters: Allegro*PSOF*4.8x6.4mm*P1.60mm*; Footprint: Sensor_Current:Allegro_PSOF-7_4.8x6.4mm_P1.60mm; Datasheet: http://www.allegromicro.com/~/media/Files/Datasheets/ACS780-Datasheet.ashx?la=en
pins: 1 VCC, 2 GND, 3 VOUT, 4 NC, 5 IP+, 6 IP-, 7 NC

## ACS781xLRTR-050B
designator *  value ACS781xLRTR-050B  Reference: U
ki_keywords: hall effect current monitor sensor isolated; ki_description: ±50A Bidirectional Hall-Effect Current Sensor, +3.3V supply, 26.4mV/A, PSOF-7; ki_fp_filters: Allegro*PSOF*4.8x6.4mm*P1.60mm*; Footprint: Sensor_Current:Allegro_PSOF-7_4.8x6.4mm_P1.60mm; Datasheet: http://www.allegromicro.com/~/media/Files/Datasheets/ACS780-Datasheet.ashx?la=en
pins: 1 VCC, 2 GND, 3 VOUT, 4 NC, 5 IP+, 6 IP-, 7 NC

## ACS781xLRTR-050U
designator *  value ACS781xLRTR-050U  Reference: U
ki_keywords: hall effect current monitor sensor isolated; ki_description: 50A Unidirectional Hall-Effect Current Sensor, +3.3V supply, 39.6mV/A, PSOF-7; ki_fp_filters: Allegro*PSOF*4.8x6.4mm*P1.60mm*; Footprint: Sensor_Current:Allegro_PSOF-7_4.8x6.4mm_P1.60mm; Datasheet: http://www.allegromicro.com/~/media/Files/Datasheets/ACS780-Datasheet.ashx?la=en
pins: 1 VCC, 2 GND, 3 VOUT, 4 NC, 5 IP+, 6 IP-, 7 NC

## ACS781xLRTR-100B
designator *  value ACS781xLRTR-100B  Reference: U
ki_keywords: hall effect current monitor sensor isolated; ki_description: ±100A Bidirectional Hall-Effect Current Sensor, +3.3V supply, 13.2mV/A, PSOF-7; ki_fp_filters: Allegro*PSOF*4.8x6.4mm*P1.60mm*; Footprint: Sensor_Current:Allegro_PSOF-7_4.8x6.4mm_P1.60mm; Datasheet: http://www.allegromicro.com/~/media/Files/Datasheets/ACS780-Datasheet.ashx?la=en
pins: 1 VCC, 2 GND, 3 VOUT, 4 NC, 5 IP+, 6 IP-, 7 NC

## ACS781xLRTR-100U
designator *  value ACS781xLRTR-100U  Reference: U
ki_keywords: hall effect current monitor sensor isolated; ki_description: 100A Unidirectional Hall-Effect Current Sensor, +3.3V supply, 26.4mV/A, PSOF-7; ki_fp_filters: Allegro*PSOF*4.8x6.4mm*P1.60mm*; Footprint: Sensor_Current:Allegro_PSOF-7_4.8x6.4mm_P1.60mm; Datasheet: http://www.allegromicro.com/~/media/Files/Datasheets/ACS781-Datasheet.ashx?la=en
pins: 1 VCC, 2 GND, 3 VOUT, 4 NC, 5 IP+, 6 IP-, 7 NC

## ACS781xLRTR-150B
designator *  value ACS781xLRTR-150B  Reference: U
ki_keywords: hall effect current monitor sensor isolated; ki_description: ±150A Bidirectional Hall-Effect Current Sensor, +3.3V supply, 8.8mV/A, PSOF-7; ki_fp_filters: Allegro*PSOF*4.8x6.4mm*P1.60mm*; Footprint: Sensor_Current:Allegro_PSOF-7_4.8x6.4mm_P1.60mm; Datasheet: http://www.allegromicro.com/~/media/Files/Datasheets/ACS781-Datsaheet.ashx?la=en
pins: 1 VCC, 2 GND, 3 VOUT, 4 NC, 5 IP+, 6 IP-, 7 NC

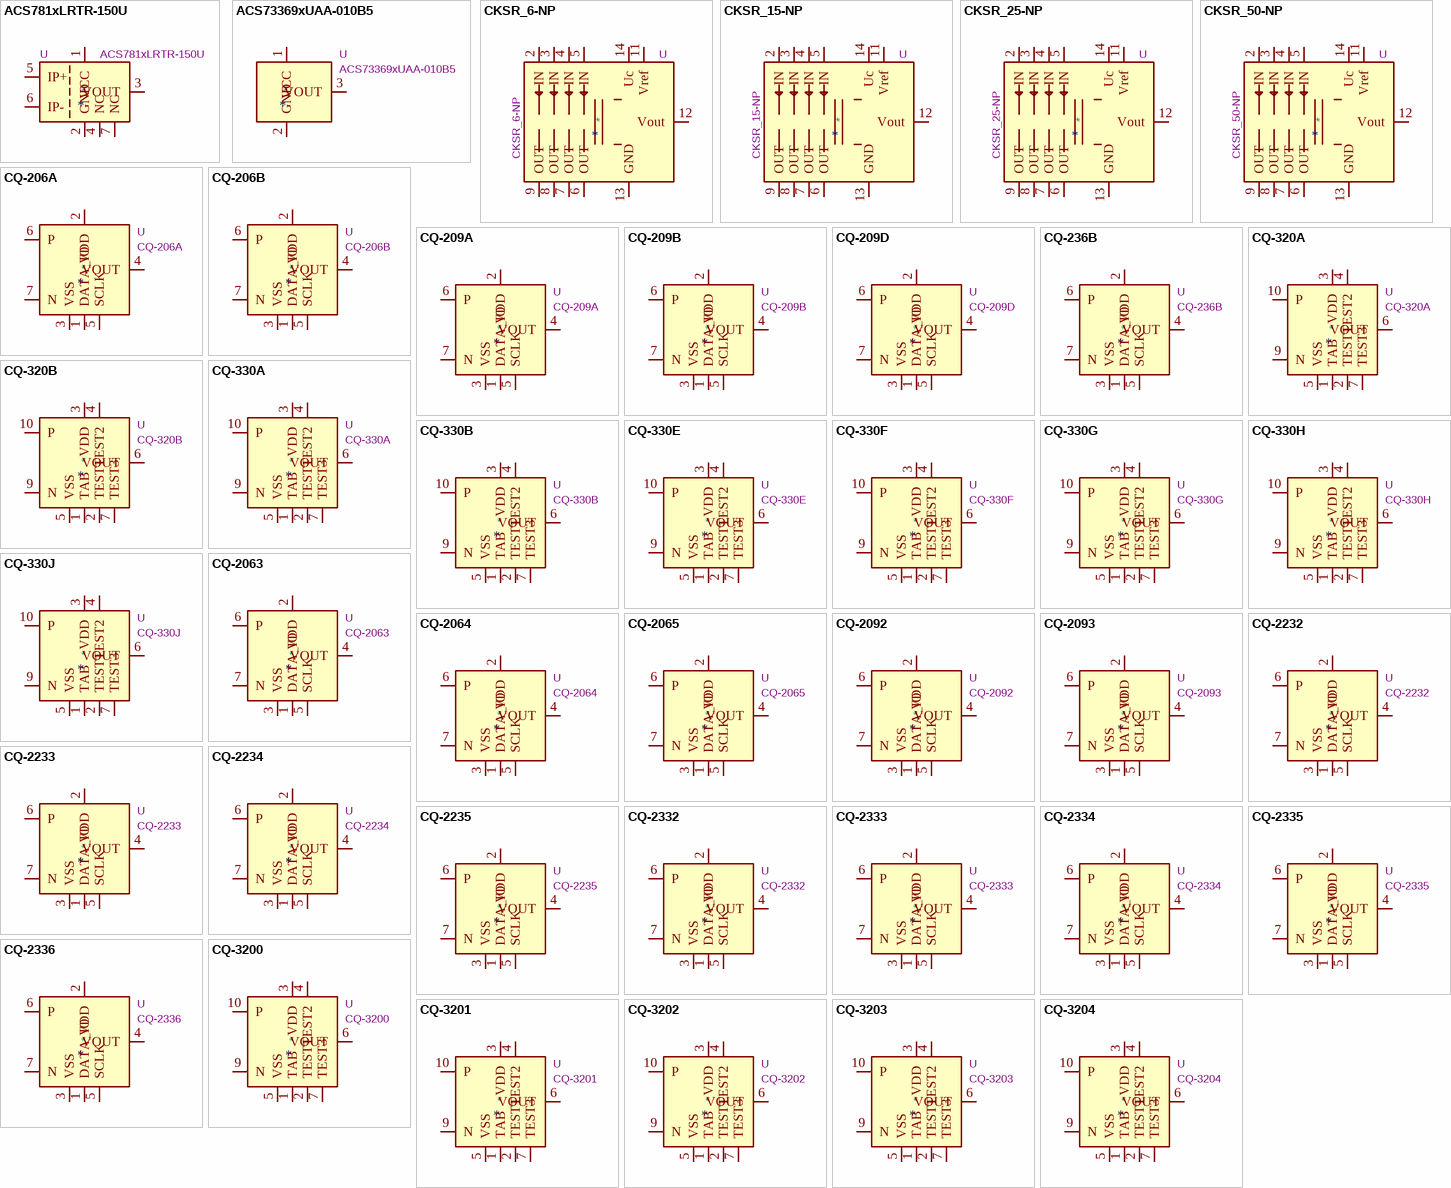
[diagram p4: symbols ACS781xLRTR-150U to CQ-3204]

## ACS781xLRTR-150U
designator *  value ACS781xLRTR-150U  Reference: U
ki_keywords: hall effect current monitor sensor isolated; ki_description: 150A Unidirectional Hall-Effect Current Sensor, +3.3V supply, 17.6mV/A, PSOF-7; ki_fp_filters: Allegro*PSOF*4.8x6.4mm*P1.60mm*; Footprint: Sensor_Current:Allegro_PSOF-7_4.8x6.4mm_P1.60mm; Datasheet: http://www.allegromicro.com/~/media/Files/Datasheets/ACS781-Datsaheet.ashx?la=en
pins: 1 VCC, 2 GND, 3 VOUT, 4 NC, 5 IP+, 6 IP-, 7 NC

## ACS73369xUAA-010B5
designator *  value ACS73369xUAA-010B5  Reference: U
ki_keywords: hall effect current monitor sensor isolated; ki_description: Programmable Linear Hall Effect Sensor, +9 to +13.5mV/G, SIP-3; ki_fp_filters: Allegro*SIP*; Footprint: Sensor_Current:Allegro_SIP-3; Datasheet: http://www.allegromicro.com/~/media/Files/Datasheets/ACS73369-Datasheet.ashx?la=en
pins: 1 VCC, 2 GND, 3 VOUT

## CKSR_6-NP
designator *  value CKSR_6-NP  Reference: U
ki_keywords: current transducer; ki_description: Current Transducer, 6A, Unipolar, 0-5V Output; ki_fp_filters: LEM*CKSR*; Footprint: Sensor_Current:LEM_CKSR; Datasheet: https://www.lem.com/sites/default/files/products_datasheets/cksr_series.pdf
pins: 2 IN, 3 IN, 4 IN, 5 IN, 6 OUT, 7 OUT, 8 OUT, 9 OUT, 11 Vref, 12 Vout, 13 GND, 14 Uc

## CKSR_15-NP
designator *  value CKSR_15-NP  Reference: U
ki_keywords: current transducer; ki_description: Current Transducer, 15A, Unipolar, 0-5V Output; ki_fp_filters: LEM*CKSR*; Footprint: Sensor_Current:LEM_CKSR; Datasheet: https://www.lem.com/sites/default/files/products_datasheets/cksr_series.pdf
pins: 2 IN, 3 IN, 4 IN, 5 IN, 6 OUT, 7 OUT, 8 OUT, 9 OUT, 11 Vref, 12 Vout, 13 GND, 14 Uc

## CKSR_25-NP
designator *  value CKSR_25-NP  Reference: U
ki_keywords: current transducer; ki_description: Current Transducer, 25A, Unipolar, 0-5V Output; ki_fp_filters: LEM*CKSR*; Footprint: Sensor_Current:LEM_CKSR; Datasheet: https://www.lem.com/sites/default/files/products_datasheets/cksr_series.pdf
pins: 2 IN, 3 IN, 4 IN, 5 IN, 6 OUT, 7 OUT, 8 OUT, 9 OUT, 11 Vref, 12 Vout, 13 GND, 14 Uc

## CKSR_50-NP
designator *  value CKSR_50-NP  Reference: U
ki_keywords: current transducer; ki_description: Current Transducer, 50A, Unipolar, 0-5V Output; ki_fp_filters: LEM*CKSR*; Footprint: Sensor_Current:LEM_CKSR; Datasheet: https://www.lem.com/sites/default/files/products_datasheets/cksr_series.pdf
pins: 2 IN, 3 IN, 4 IN, 5 IN, 6 OUT, 7 OUT, 8 OUT, 9 OUT, 11 Vref, 12 Vout, 13 GND, 14 Uc

## CQ-206A
designator *  value CQ-206A  Reference: U
ki_keywords: hall effect current sensor; ki_description: High-Speed Small-Sized Current Sensor, Bidirectional, -46A to +46A, 45mV/A, CQ-7; ki_fp_filters: AKM*CQ*; Footprint: Sensor_Current:AKM_CQ_7; Datasheet: http://www.akm.com/akm/en/file/datasheet/CQ-206A.pdf
pins: 1 DATA_IO, 2 VDD, 3 VSS, 4 VOUT, 5 SCLK, 6 P, 7 N

## CQ-206B
designator *  value CQ-206B  Reference: U
ki_keywords: hall effect current sensor; ki_description: High-Speed Small-Sized Current Sensor, Unidirectional, 0A to +45A, 90mV/A, CQ-7; ki_fp_filters: AKM*CQ*; Footprint: Sensor_Current:AKM_CQ_7; Datasheet: http://www.akm.com/akm/en/file/datasheet/CQ-206B.pdf
pins: 1 DATA_IO, 2 VDD, 3 VSS, 4 VOUT, 5 SCLK, 6 P, 7 N

## CQ-209A
designator *  value CQ-209A  Reference: U
ki_keywords: hall effect current sensor; ki_description: High-Speed Small-Sized Current Sensor, Bidirectional, -31.8A to +31.8A, 66mV/A, CQ-7S; ki_fp_filters: AKM*CQ*S*; Footprint: Sensor_Current:AKM_CQ_7S; Datasheet: http://www.akm.com/akm/en/file/datasheet/CQ-209A.pdf
pins: 1 DATA_IO, 2 VDD, 3 VSS, 4 VOUT, 5 SCLK, 6 P, 7 N

## CQ-209B
designator *  value CQ-209B  Reference: U
ki_keywords: hall effect current sensor; ki_description: High-Speed Small-Sized Current Sensor, Unidirectional, -35A to 0A, 115mV/A, CQ-7S; ki_fp_filters: AKM*CQ*S*; Footprint: Sensor_Current:AKM_CQ_7S; Datasheet: http://www.akm.com/akm/en/file/datasheet/CQ-209B.pdf
pins: 1 DATA_IO, 2 VDD, 3 VSS, 4 VOUT, 5 SCLK, 6 P, 7 N

## CQ-209D
designator *  value CQ-209D  Reference: U
ki_keywords: hall effect current sensor; ki_description: High-Speed Small-Sized Current Sensor, Bidirectional, -41A to +41A, 50mV/A, CQ-7S; ki_fp_filters: AKM*CQ*S*; Footprint: Sensor_Current:AKM_CQ_7S; Datasheet: http://www.akm.com/akm/en/file/datasheet/CQ-209D.pdf
pins: 1 DATA_IO, 2 VDD, 3 VSS, 4 VOUT, 5 SCLK, 6 P, 7 N

## CQ-236B
designator *  value CQ-236B  Reference: U
ki_keywords: hall effect current sensor; ki_description: High-Speed Small-Sized Current Sensor, Unidirectional, 0A to +25A, 160mV/A, CQ-7; ki_fp_filters: AKM*CQ*; Footprint: Sensor_Current:AKM_CQ_7; Datasheet: http://www.akm.com/akm/en/file/datasheet/CQ-236B.pdf
pins: 1 DATA_IO, 2 VDD, 3 VSS, 4 VOUT, 5 SCLK, 6 P, 7 N

## CQ-320A
designator *  value CQ-320A  Reference: U
ki_keywords: hall effect current sensor; ki_description: High-Speed Response Coreless Current Sensor, Bidirectional, -29.3A to +29.3A, 45mV/A, VSOP-24; ki_fp_filters: AKM*CQ*VSOP*5.6x7.9mm*P0.65mm*; Footprint: Sensor_Current:AKM_CQ_VSOP-24_5.6x7.9mm_P0.65mm; Datasheet: http://www.akm.com/akm/en/file/datasheet/CQ-320A.pdf
pins: 1 TAB, 2 TEST1, 3 VDD, 4 TEST2, 5 VSS, 6 VOUT, 7 TEST3, 8 TAB hidden, 9 N, 10 P

## CQ-320B
designator *  value CQ-320B  Reference: U
ki_keywords: hall effect current sensor; ki_description: High-Speed Response Coreless Current Sensor, Unidirectional, -1.1A to +20.9A, 120mV/A, VSOP-24; ki_fp_filters: AKM*CQ*VSOP*5.6x7.9mm*P0.65mm*; Footprint: Sensor_Current:AKM_CQ_VSOP-24_5.6x7.9mm_P0.65mm; Datasheet: http://www.akm.com/akm/en/file/datasheet/CQ-320B.pdf
pins: 1 TAB, 2 TEST1, 3 VDD, 4 TEST2, 5 VSS, 6 VOUT, 7 TEST3, 8 TAB hidden, 9 N, 10 P

## CQ-330A
designator *  value CQ-330A  Reference: U
ki_keywords: hall effect current sensor; ki_description: High-Speed Response Coreless Current Sensor, Bidirectional, -31.8A to +31.8A, 66mV/A, VSOP-24; ki_fp_filters: AKM*CQ*VSOP*5.6x7.9mm*P0.65mm*; Footprint: Sensor_Current:AKM_CQ_VSOP-24_5.6x7.9mm_P0.65mm; Datasheet: http://www.akm.com/akm/en/file/datasheet/CQ-330A.pdf
pins: 1 TAB, 2 TEST1, 3 VDD, 4 TEST2, 5 VSS, 6 VOUT, 7 TEST3, 8 TAB hidden, 9 N, 10 P

## CQ-330B
designator *  value CQ-330B  Reference: U
ki_keywords: hall effect current sensor; ki_description: High-Speed Response Coreless Current Sensor, Unidirectional, 0A to +21.0A, 195mV/A, VSOP-24; ki_fp_filters: AKM*CQ*VSOP*5.6x7.9mm*P0.65mm*; Footprint: Sensor_Current:AKM_CQ_VSOP-24_5.6x7.9mm_P0.65mm; Datasheet: http://www.akm.com/akm/en/file/datasheet/CQ-330B.pdf
pins: 1 TAB, 2 TEST1, 3 VDD, 4 TEST2, 5 VSS, 6 VOUT, 7 TEST3, 8 TAB hidden, 9 N, 10 P

## CQ-330E
designator *  value CQ-330E  Reference: U
ki_keywords: hall effect current sensor; ki_description: High-Speed Response Coreless Current Sensor, Unidirectional, 0A to +20.5A, 200mV/A, VSOP-24; ki_fp_filters: AKM*CQ*VSOP*5.6x7.9mm*P0.65mm*; Footprint: Sensor_Current:AKM_CQ_VSOP-24_5.6x7.9mm_P0.65mm; Datasheet: http://www.akm.com/akm/en/file/datasheet/CQ-330E.pdf
pins: 1 TAB, 2 TEST1, 3 VDD, 4 TEST2, 5 VSS, 6 VOUT, 7 TEST3, 8 TAB hidden, 9 N, 10 P

## CQ-330F
designator *  value CQ-330F  Reference: U
ki_keywords: hall effect current sensor; ki_description: High-Speed Response Coreless Current Sensor, Unidirectional, -2.0A to +42.0A, 80mV/A, VSOP-24; ki_fp_filters: AKM*CQ*VSOP*5.6x7.9mm*P0.65mm*; Footprint: Sensor_Current:AKM_CQ_VSOP-24_5.6x7.9mm_P0.65mm; Datasheet: http://www.akm.com/akm/en/file/datasheet/CQ-330F.pdf
pins: 1 TAB, 2 TEST1, 3 VDD, 4 TEST2, 5 VSS, 6 VOUT, 7 TEST3, 8 TAB hidden, 9 N, 10 P

## CQ-330G
designator *  value CQ-330G  Reference: U
ki_keywords: hall effect current sensor; ki_description: High-Speed Response Coreless Current Sensor, Bidirectional, -4.5A to +4.5A, 450mV/A, VSOP-24; ki_fp_filters: AKM*CQ*VSOP*5.6x7.9mm*P0.65mm*; Footprint: Sensor_Current:AKM_CQ_VSOP-24_5.6x7.9mm_P0.65mm; Datasheet: http://www.akm.com/akm/en/file/datasheet/CQ-330G.pdf
pins: 1 TAB, 2 TEST1, 3 VDD, 4 TEST2, 5 VSS, 6 VOUT, 7 TEST3, 8 TAB hidden, 9 N, 10 P

## CQ-330H
designator *  value CQ-330H  Reference: U
ki_keywords: hall effect current sensor; ki_description: High-Speed Response Coreless Current Sensor, Bidirectional, -42.0A to +42.0A, 50mV/A, VSOP-24; ki_fp_filters: AKM*CQ*VSOP*5.6x7.9mm*P0.65mm*; Footprint: Sensor_Current:AKM_CQ_VSOP-24_5.6x7.9mm_P0.65mm; Datasheet: http://www.akm.com/akm/en/file/datasheet/CQ-330H.pdf
pins: 1 TAB, 2 TEST1, 3 VDD, 4 TEST2, 5 VSS, 6 VOUT, 7 TEST3, 8 TAB hidden, 9 N, 10 P

## CQ-330J
designator *  value CQ-330J  Reference: U
ki_keywords: hall effect current sensor; ki_description: High-Speed Response Coreless Current Sensor, Unidirectional, -2.0A to +42.0A, 82.7mV/A, VSOP-24; ki_fp_filters: AKM*CQ*VSOP*5.6x7.9mm*P0.65mm*; Footprint: Sensor_Current:AKM_CQ_VSOP-24_5.6x7.9mm_P0.65mm; Datasheet: http://www.akm.com/akm/en/file/datasheet/CQ-330J.pdf
pins: 1 TAB, 2 TEST1, 3 VDD, 4 TEST2, 5 VSS, 6 VOUT, 7 TEST3, 8 TAB hidden, 9 N, 10 P

## CQ-2063
designator *  value CQ-2063  Reference: U
ki_keywords: hall effect current sensor; ki_description: High-Speed Small-Sized Current Sensor, Bidirectional, -35A to +35A, 60mV/A, CQ-7; ki_fp_filters: AKM*CQ*; Footprint: Sensor_Current:AKM_CQ_7; Datasheet: http://www.akm.com/akm/en/file/datasheet/CQ-2063.pdf
pins: 1 DATA_IO, 2 VDD, 3 VSS, 4 VOUT, 5 SCLK, 6 P, 7 N

## CQ-2064
designator *  value CQ-2064  Reference: U
ki_keywords: hall effect current sensor; ki_description: High-Speed Small-Sized Current Sensor, Bidirectional, -54A to +54A, 40mV/A, CQ-7; ki_fp_filters: AKM*CQ*; Footprint: Sensor_Current:AKM_CQ_7; Datasheet: http://www.akm.com/akm/en/file/datasheet/CQ-2064.pdf
pins: 1 DATA_IO, 2 VDD, 3 VSS, 4 VOUT, 5 SCLK, 6 P, 7 N

## CQ-2065
designator *  value CQ-2065  Reference: U
ki_keywords: hall effect current sensor; ki_description: High-Speed Small-Sized Current Sensor, Bidirectional, -85A to +85A, 25mV/A, CQ-7; ki_fp_filters: AKM*CQ*; Footprint: Sensor_Current:AKM_CQ_7; Datasheet: http://www.akm.com/akm/en/file/datasheet/CQ-2065.pdf
pins: 1 DATA_IO, 2 VDD, 3 VSS, 4 VOUT, 5 SCLK, 6 P, 7 N

## CQ-2092
designator *  value CQ-2092  Reference: U
ki_keywords: hall effect current sensor; ki_description: High-Speed Small-Sized Current Sensor, Bidirectional, -21A to +21A, 100mV/A, CQ-7S; ki_fp_filters: AKM*CQ*S*; Footprint: Sensor_Current:AKM_CQ_7S; Datasheet: http://www.akm.com/akm/en/file/datasheet/CQ-2092.pdf
pins: 1 DATA_IO, 2 VDD, 3 VSS, 4 VOUT, 5 SCLK, 6 P, 7 N

## CQ-2093
designator *  value CQ-2093  Reference: U
ki_keywords: hall effect current sensor; ki_description: High-Speed Small-Sized Current Sensor, Bidirectional, -35A to +35A, 60mV/A, CQ-7S; ki_fp_filters: AKM*CQ*S*; Footprint: Sensor_Current:AKM_CQ_7S; Datasheet: http://www.akm.com/akm/en/file/datasheet/CQ-2093.pdf
pins: 1 DATA_IO, 2 VDD, 3 VSS, 4 VOUT, 5 SCLK, 6 P, 7 N

## CQ-2232
designator *  value CQ-2232  Reference: U
ki_keywords: hall effect current sensor; ki_description: High-Speed Small Current Sensor, Bidirectional, -21A to +21A, 62.5mV/A, CQ-7; ki_fp_filters: AKM*CQ*; Footprint: Sensor_Current:AKM_CQ_7; Datasheet: http://www.akm.com/akm/en/file/datasheet/CQ-2232.pdf
pins: 1 DATA_IO, 2 VDD, 3 VSS, 4 VOUT, 5 SCLK, 6 P, 7 N

## CQ-2233
designator *  value CQ-2233  Reference: U
ki_keywords: hall effect current sensor; ki_description: High-Speed Small Current Sensor, Bidirectional, -35A to +35A, 37.5mV/A, CQ-7; ki_fp_filters: AKM*CQ*; Footprint: Sensor_Current:AKM_CQ_7; Datasheet: http://www.akm.com/akm/en/file/datasheet/CQ-2233.pdf
pins: 1 DATA_IO, 2 VDD, 3 VSS, 4 VOUT, 5 SCLK, 6 P, 7 N

## CQ-2234
designator *  value CQ-2234  Reference: U
ki_keywords: hall effect current sensor; ki_description: High-Speed Small Current Sensor, Bidirectional, -54A to +54A, 24.5mV/A, CQ-7; ki_fp_filters: AKM*CQ*; Footprint: Sensor_Current:AKM_CQ_7; Datasheet: http://www.akm.com/akm/en/file/datasheet/CQ-2234.pdf
pins: 1 DATA_IO, 2 VDD, 3 VSS, 4 VOUT, 5 SCLK, 6 P, 7 N

## CQ-2235
designator *  value CQ-2235  Reference: U
ki_keywords: hall effect current sensor; ki_description: High-Speed Small Current Sensor, Bidirectional, -85A to +85A, 15.5mV/A, CQ-7; ki_fp_filters: AKM*CQ*; Footprint: Sensor_Current:AKM_CQ_7; Datasheet: http://www.akm.com/akm/en/file/datasheet/CQ-2235.pdf
pins: 1 DATA_IO, 2 VDD, 3 VSS, 4 VOUT, 5 SCLK, 6 P, 7 N

## CQ-2332
designator *  value CQ-2332  Reference: U
ki_keywords: hall effect current sensor; ki_description: High-Speed Small Current Sensor, Bidirectional, -21A to +21A, 100mV/A, CQ-7; ki_fp_filters: AKM*CQ*; Footprint: Sensor_Current:AKM_CQ_7; Datasheet: http://www.akm.com/akm/en/file/datasheet/CQ-2332.pdf
pins: 1 DATA_IO, 2 VDD, 3 VSS, 4 VOUT, 5 SCLK, 6 P, 7 N

## CQ-2333
designator *  value CQ-2333  Reference: U
ki_keywords: hall effect current sensor; ki_description: High-Speed Small Current Sensor, Bidirectional, -35A to +35A, 60mV/A, CQ-7; ki_fp_filters: AKM*CQ*; Footprint: Sensor_Current:AKM_CQ_7; Datasheet: http://www.akm.com/akm/en/file/datasheet/CQ-2333.pdf
pins: 1 DATA_IO, 2 VDD, 3 VSS, 4 VOUT, 5 SCLK, 6 P, 7 N

## CQ-2334
designator *  value CQ-2334  Reference: U
ki_keywords: hall effect current sensor; ki_description: High-Speed Small Current Sensor, Bidirectional, -54A to +54A, 40mV/A, CQ-7; ki_fp_filters: AKM*CQ*; Footprint: Sensor_Current:AKM_CQ_7; Datasheet: http://www.akm.com/akm/en/file/datasheet/CQ-2334.pdf
pins: 1 DATA_IO, 2 VDD, 3 VSS, 4 VOUT, 5 SCLK, 6 P, 7 N

## CQ-2335
designator *  value CQ-2335  Reference: U
ki_keywords: hall effect current sensor; ki_description: High-Speed Small Current Sensor, Bidirectional, -85A to +85A, 25mV/A, CQ-7; ki_fp_filters: AKM*CQ*; Footprint: Sensor_Current:AKM_CQ_7; Datasheet: http://www.akm.com/akm/en/file/datasheet/CQ-2335.pdf
pins: 1 DATA_IO, 2 VDD, 3 VSS, 4 VOUT, 5 SCLK, 6 P, 7 N

## CQ-2336
designator *  value CQ-2336  Reference: U
ki_keywords: hall effect current sensor; ki_description: High-Speed Small Current Sensor, Bidirectional, -170A to +170A, 12mV/A, CQ-7; ki_fp_filters: AKM*CQ*; Footprint: Sensor_Current:AKM_CQ_7; Datasheet: http://www.akm.com/akm/en/file/datasheet/CQ-2335.pdf
pins: 1 DATA_IO, 2 VDD, 3 VSS, 4 VOUT, 5 SCLK, 6 P, 7 N

## CQ-3200
designator *  value CQ-3200  Reference: U
ki_keywords: hall effect current sensor; ki_description: High-Speed Response Coreless Current Sensor, Bidirectional, -8.5A to +8.5A, 155mV/A, VSOP-24; ki_fp_filters: AKM*CQ*VSOP*5.6x7.9mm*P0.65mm*; Footprint: Sensor_Current:AKM_CQ_VSOP-24_5.6x7.9mm_P0.65mm; Datasheet: http://www.akm.com/akm/en/file/datasheet/CQ-3200.pdf
pins: 1 TAB, 2 TEST1, 3 VDD, 4 TEST2, 5 VSS, 6 VOUT, 7 TEST3, 8 TAB hidden, 9 N, 10 P

## CQ-3201
designator *  value CQ-3201  Reference: U
ki_keywords: hall effect current sensor; ki_description: High-Speed Response Coreless Current Sensor, Bidirectional, -10.1A to +10.1A, 130mV/A, VSOP-24; ki_fp_filters: AKM*CQ*VSOP*5.6x7.9mm*P0.65mm*; Footprint: Sensor_Current:AKM_CQ_VSOP-24_5.6x7.9mm_P0.65mm; Datasheet: http://www.akm.com/akm/en/file/datasheet/CQ-3201.pdf
pins: 1 TAB, 2 TEST1, 3 VDD, 4 TEST2, 5 VSS, 6 VOUT, 7 TEST3, 8 TAB hidden, 9 N, 10 P

## CQ-3202
designator *  value CQ-3202  Reference: U
ki_keywords: hall effect current sensor; ki_description: High-Speed Response Coreless Current Sensor, Bidirectional, -21.1A to +21.1A, 62.5mV/A, VSOP-24; ki_fp_filters: AKM*CQ*VSOP*5.6x7.9mm*P0.65mm*; Footprint: Sensor_Current:AKM_CQ_VSOP-24_5.6x7.9mm_P0.65mm; Datasheet: http://www.akm.com/akm/en/file/datasheet/CQ-3202.pdf
pins: 1 TAB, 2 TEST1, 3 VDD, 4 TEST2, 5 VSS, 6 VOUT, 7 TEST3, 8 TAB hidden, 9 N, 10 P

## CQ-3203
designator *  value CQ-3203  Reference: U
ki_keywords: hall effect current sensor; ki_description: High-Speed Response Coreless Current Sensor, Bidirectional, -35.7A to +35.7A, 37mV/A, VSOP-24; ki_fp_filters: AKM*CQ*VSOP*5.6x7.9mm*P0.65mm*; Footprint: Sensor_Current:AKM_CQ_VSOP-24_5.6x7.9mm_P0.65mm; Datasheet: http://www.akm.com/akm/en/file/datasheet/CQ-3203.pdf
pins: 1 TAB, 2 TEST1, 3 VDD, 4 TEST2, 5 VSS, 6 VOUT, 7 TEST3, 8 TAB hidden, 9 N, 10 P

## CQ-3204
designator *  value CQ-3204  Reference: U
ki_keywords: hall effect current sensor; ki_description: High-Speed Response Coreless Current Sensor, Bidirectional, -44.0A to +44.0A, 30mV/A, VSOP-24; ki_fp_filters: AKM*CQ*VSOP*5.6x7.9mm*P0.65mm*; Footprint: Sensor_Current:AKM_CQ_VSOP-24_5.6x7.9mm_P0.65mm; Datasheet: http://www.akm.com/akm/en/file/datasheet/CQ-3204.pdf
pins: 1 TAB, 2 TEST1, 3 VDD, 4 TEST2, 5 VSS, 6 VOUT, 7 TEST3, 8 TAB hidden, 9 N, 10 P

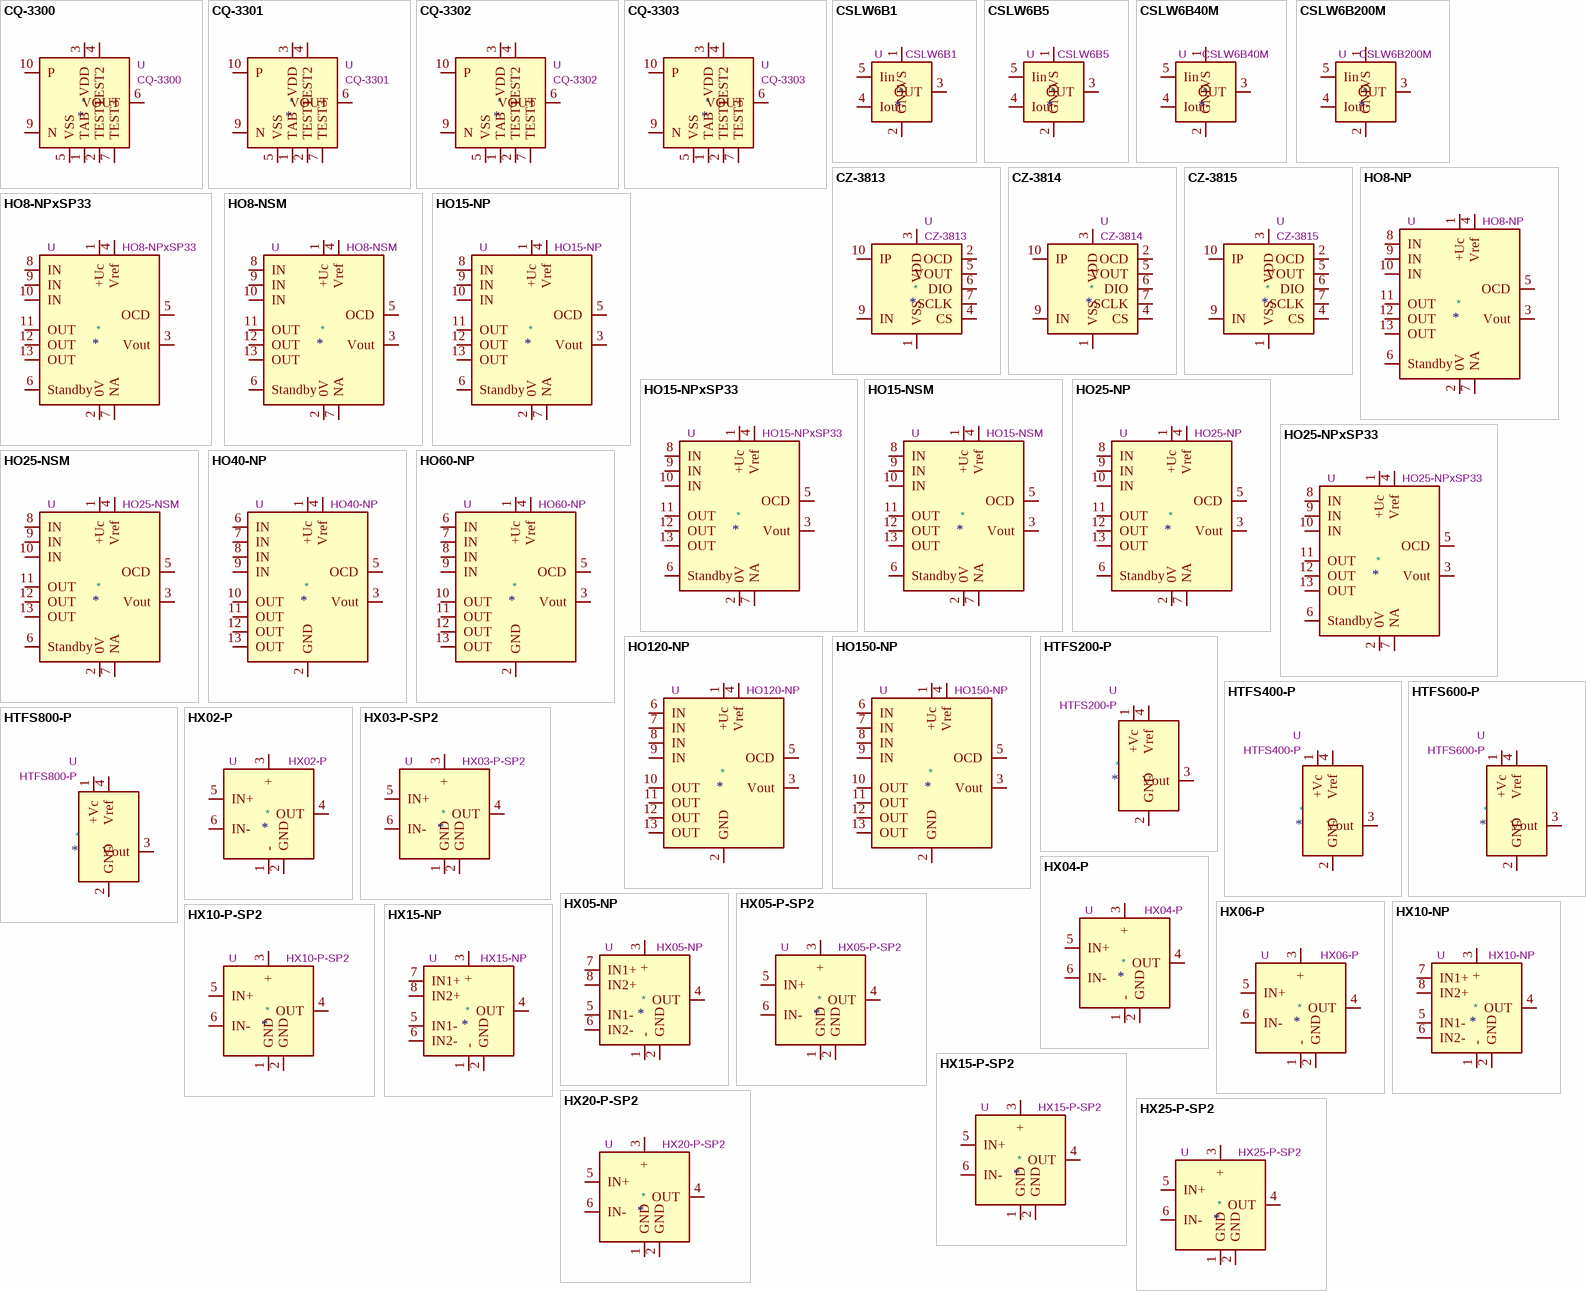
[diagram p5: symbols CQ-3300 to HX25-P-SP2]

## CQ-3300
designator *  value CQ-3300  Reference: U
ki_keywords: hall effect current sensor; ki_description: High-Speed Response Coreless Current Sensor, Bidirectional, -6.4A to +6.4A, 325mV/A, VSOP-24; ki_fp_filters: AKM*CQ*VSOP*5.6x7.9mm*P0.65mm*; Footprint: Sensor_Current:AKM_CQ_VSOP-24_5.6x7.9mm_P0.65mm; Datasheet: http://www.akm.com/akm/en/file/datasheet/CQ-3300.pdf
pins: 1 TAB, 2 TEST1, 3 VDD, 4 TEST2, 5 VSS, 6 VOUT, 7 TEST3, 8 TAB hidden, 9 N, 10 P

## CQ-3301
designator *  value CQ-3301  Reference: U
ki_keywords: hall effect current sensor; ki_description: High-Speed Response Coreless Current Sensor, Bidirectional, -10.7A to +10.7A, 195mV/A, VSOP-24; ki_fp_filters: AKM*CQ*VSOP*5.6x7.9mm*P0.65mm*; Footprint: Sensor_Current:AKM_CQ_VSOP-24_5.6x7.9mm_P0.65mm; Datasheet: http://www.akm.com/akm/en/file/datasheet/CQ-3301.pdf
pins: 1 TAB, 2 TEST1, 3 VDD, 4 TEST2, 5 VSS, 6 VOUT, 7 TEST3, 8 TAB hidden, 9 N, 10 P

## CQ-3302
designator *  value CQ-3302  Reference: U
ki_keywords: hall effect current sensor; ki_description: High-Speed Response Coreless Current Sensor, Bidirectional, -21.0A to +21.0A, 100mV/A, VSOP-24; ki_fp_filters: AKM*CQ*VSOP*5.6x7.9mm*P0.65mm*; Footprint: Sensor_Current:AKM_CQ_VSOP-24_5.6x7.9mm_P0.65mm; Datasheet: http://www.akm.com/akm/en/file/datasheet/CQ-3302.pdf
pins: 1 TAB, 2 TEST1, 3 VDD, 4 TEST2, 5 VSS, 6 VOUT, 7 TEST3, 8 TAB hidden, 9 N, 10 P

## CQ-3303
designator *  value CQ-3303  Reference: U
ki_keywords: hall effect current sensor; ki_description: High-Speed Response Coreless Current Sensor, Bidirectional, -35.0A to +35.0A, 60mV/A, VSOP-24; ki_fp_filters: AKM*CQ*VSOP*5.6x7.9mm*P0.65mm*; Footprint: Sensor_Current:AKM_CQ_VSOP-24_5.6x7.9mm_P0.65mm; Datasheet: http://www.akm.com/akm/en/file/datasheet/CQ-3303.pdf
pins: 1 TAB, 2 TEST1, 3 VDD, 4 TEST2, 5 VSS, 6 VOUT, 7 TEST3, 8 TAB hidden, 9 N, 10 P

## CSLW6B1
designator *  value CSLW6B1  Reference: U
ki_keywords: hall current sensor; ki_description: Miniature Wired Open-Loop Current Sensors, 1A; ki_fp_filters: Honeywell*CSLW*; Footprint: Sensor_Current:Honeywell_CSLW; Datasheet: https://sensing.honeywell.com/honeywell-sensing-cslw-series-product-sheet-005861-1-en.pdf
pins: 1 VS, 2 GND, 3 OUT, 4 Iout, 5 Iin